# Altium schematic symbol library MCU.SchLib: 2 symbols
Pins are listed as number, name and electrical type; pins without a type are passive.

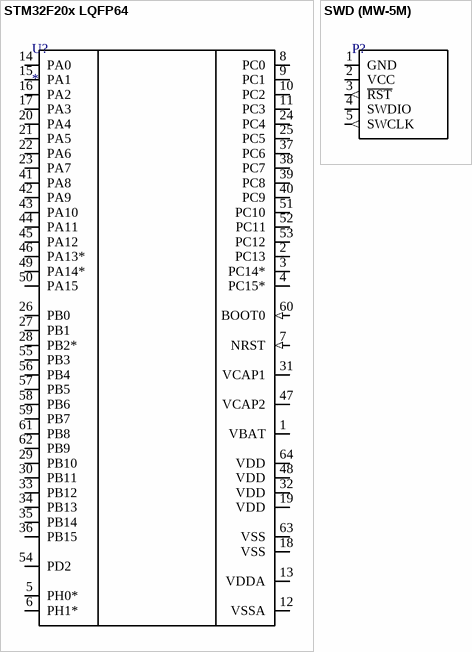
[diagram p0: symbols STM32F20x LQFP64 to SWD (MW-5M)]

## STM32F20x LQFP64
designator U?
STM32F20x LQFP64; Name: *
pins: 1 VBAT (power), 2 PC13 (io), 3 PC14* (io), 4 PC15* (io), 5 PH0* (io), 6 PH1* (io), 7 NRST (in), 8 PC0 (io), 9 PC1 (io), 10 PC2 (io), 11 PC3 (io), 12 VSSA (power), 13 VDDA (power), 14 PA0 (io), 15 PA1 (io), 16 PA2 (io), 17 PA3 (io), 18 VSS (power), 19 VDD (power), 20 PA4 (io), 21 PA5 (io), 22 PA6 (io), 23 PA7 (io), 24 PC4 (io), 25 PC5 (io), 26 PB0 (io), 27 PB1 (io), 28 PB2* (io), 29 PB10 (io), 30 PB11 (io), 31 VCAP1 (power), 32 VDD (power), 33 PB12 (io), 34 PB13 (io), 35 PB14 (io), 36 PB15 (io), 37 PC6 (io), 38 PC7 (io), 39 PC8 (io), 40 PC9 (io), 41 PA8 (io), 42 PA9 (io), 43 PA10 (io), 44 PA11 (io), 45 PA12 (io), 46 PA13* (io), 47 VCAP2 (power), 48 VDD (power), 49 PA14* (io), 50 PA15 (io), 51 PC10 (io), 52 PC11 (io), 53 PC12 (io), 54 PD2 (io), 55 PB3 (io), 56 PB4 (io), 57 PB5 (io), 58 PB6 (io), 59 PB7 (io), 60 BOOT0 (in), 61 PB8 (io), 62 PB9 (io), 63 VSS (power), 64 VDD (power)

## SWD (MW-5M)
designator P?  (value not drawn)
Serial wire debug; Name: *
pins: 1 GND (power), 2 VCC (power), 3 ~{RST} (out), 4 SWDIO (io), 5 SWCLK (out)